# EAGLE library part METRO-MINI (library Arduino-shield-scaffolds)
Adafruit Metro Mini layout. Basic Uno-style pins in a 28pin 0.6inch DIP.
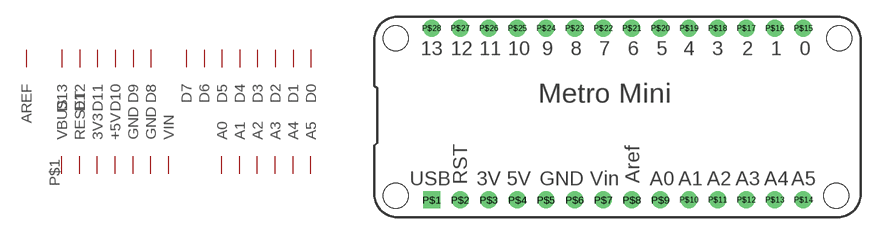
[diagram p10: symbol with the pads of METRO-MINI; footprint METRO-MINI]

Designator prefix -; gates G$1=ARDUINO_PWRBASE G$2=ARDUINO-A0-5 G$3=ARDUINO-AREF G$4=ARDUINO-D8-13 G$5=ARDUINODO-7 G$6=ARDUINO-EXTPWR G$7=VBUS

## METRO-MINI  [METRO-MINI]
P$1  G$7:VBUS  pwr
P$2  G$6:RESET  in
P$3  G$6:3V3  pwr
P$4  G$1:+5V  pwr
P$5  G$1:GND  pwr
P$6  G$1:GND  pwr
P$7  G$1:VIN  pwr
P$8  G$3:AREF  pas
P$9  G$2:A0
P$10  G$2:A1
P$11  G$2:A2
P$12  G$2:A3
P$13  G$2:A4
P$14  G$2:A5
P$15  G$5:D0
P$16  G$5:D1
P$17  G$5:D2
P$18  G$5:D3
P$19  G$5:D4
P$20  G$5:D5
P$21  G$5:D6
P$22  G$5:D7
P$23  G$4:D8
P$24  G$4:D9
P$25  G$4:D10
P$26  G$4:D11
P$27  G$4:D12
P$28  G$4:D13

## Footprint METRO-MINI (pad centres in mm)
Adafruit Metro Mini Basic Uno-style pins in a 28pin 0.6inch DIP
drill 1 square: P$1 5.08,1.27
drill 1: P$2 7.62,1.27; P$3 10.16,1.27; P$4 12.7,1.27; P$5 15.24,1.27; P$6 17.78,1.27; P$7 20.32,1.27; P$8 22.86,1.27; P$9 25.4,1.27; P$10 27.94,1.27; P$11 30.48,1.27; P$12 33.02,1.27; P$13 35.56,1.27; P$14 38.1,1.27; P$15 38.1,16.51; P$16 35.56,16.51; P$17 33.02,16.51; P$18 30.48,16.51; P$19 27.94,16.51; P$20 25.4,16.51; P$21 22.86,16.51; P$22 20.32,16.51; P$23 17.78,16.51; P$24 15.24,16.51; P$25 12.7,16.51; P$26 10.16,16.51; P$27 7.62,16.51; P$28 5.08,16.51
hole 2.2 at 1.905,15.621
hole 2.2 at 1.905,1.651
hole 2.2 at 41.275,15.621
hole 2.2 at 41.021,1.651